# Altium footprint library Cubesat_lib.PcbLib: 37 footprints (part 2 of 3)
Each footprint in its own frame and in the unit in brackets; x right, y up, seen from the top. Pads: shape width x height; smd on the part's side, far side on the other; paste and mask are expansions set on the pad; w line width, h text height; cw(c..) or ccw(c..) is an arc to the next point about the centre after c.
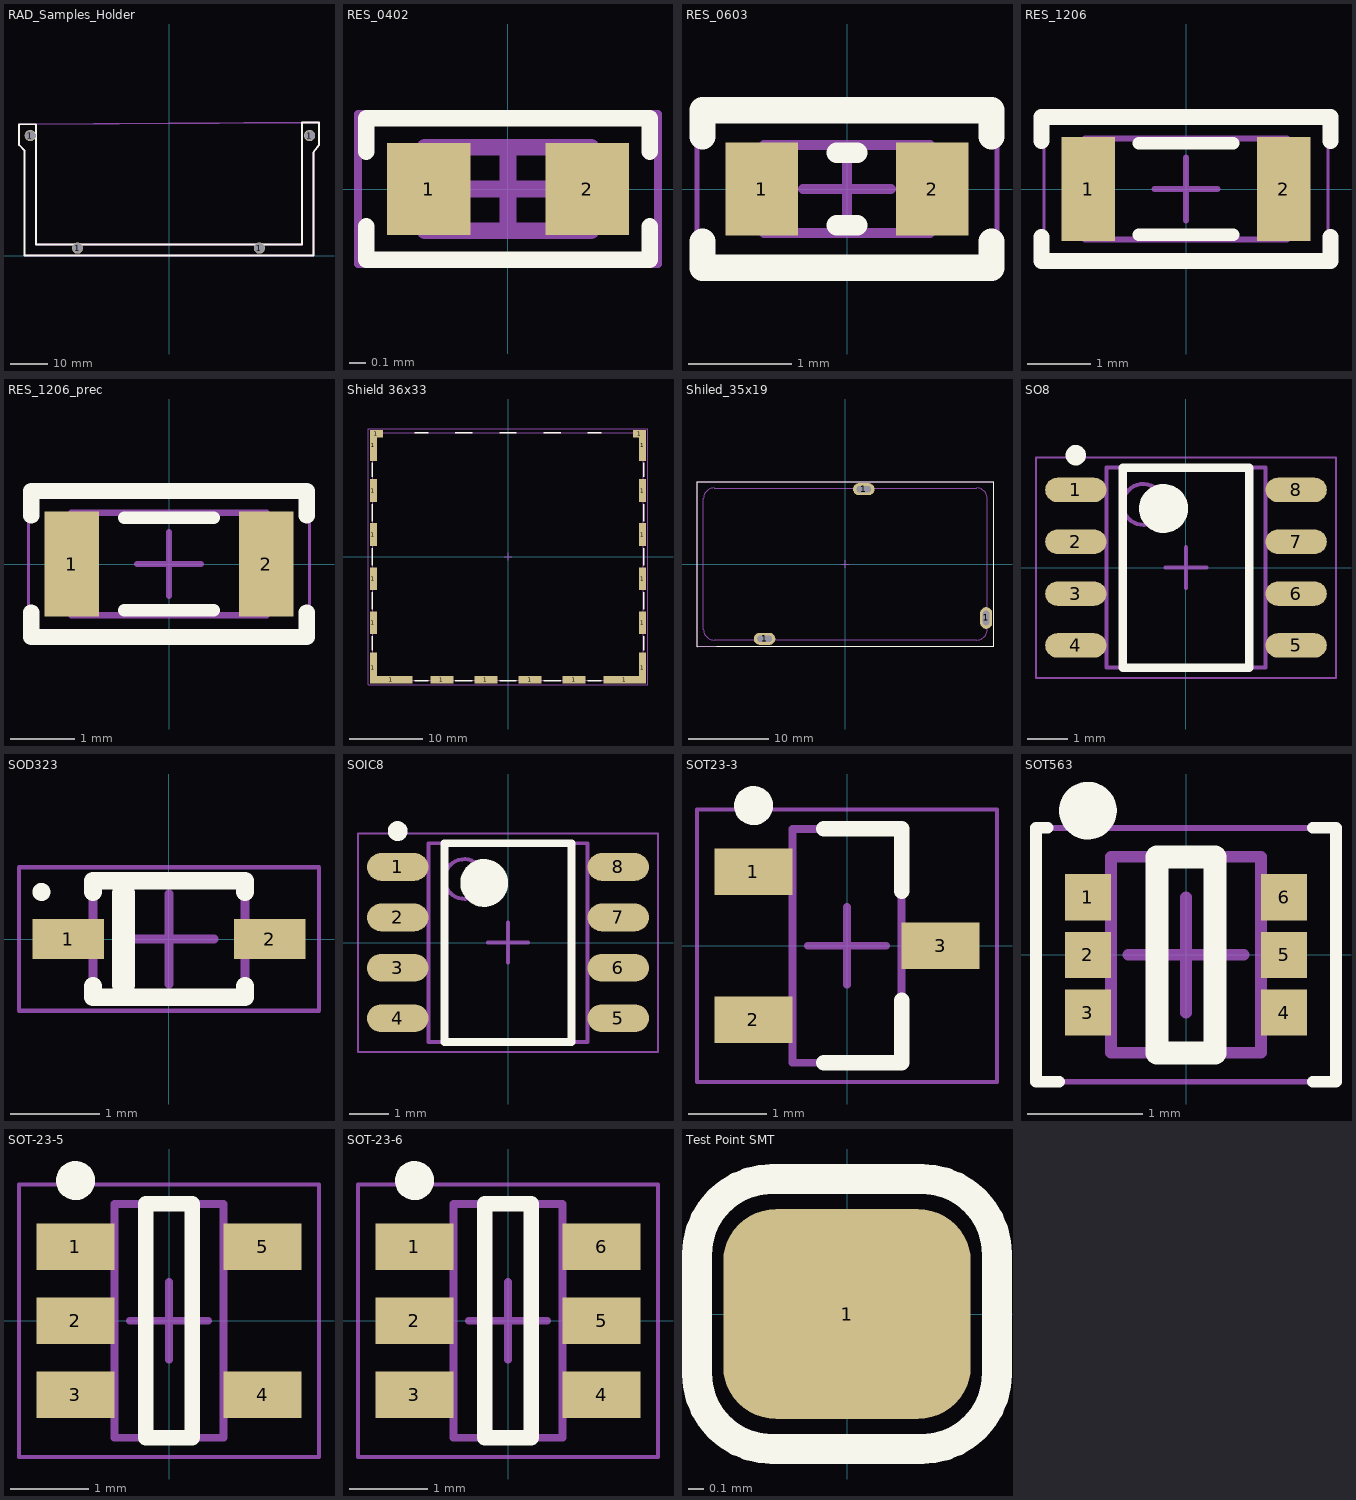
[diagram p1: the footprints below, top view; thin cyan lines are the x and y axes]

## PCBComponent_1 [mm]

## RAD_Samples_Holder [mm]
pads (4):
  round 3 hole 2.75: 1(-37,32) 1(-24.4,2) 1(24.1,2) 1(37.5,32)
Top Overlay:
  lines w0.5: -40,35 -35.5,35 -35.5,3 35.5,3 35.5,35.5 40,35.5 40,29.5 38.5,27.5 38.5,0 -38.5,0 -38.5,28 -40,29.5 -40,35 ; -40,35 -40,35
Bottom Overlay:
  lines w0.5: -38.5,0 38.5,0 38.5,27.5 40,29.5 40,35.5 -40,35 -40,29.5 -38.5,28
Mechanical 11:
  lines w0.5: -38.5,0 38.5,0 38.5,27.5 40,29.5 40,35.5 35.5,35.5 35.5,3 -35.5,3 ; -35.5,35 -40,35 ; -40,35 -40,29.5 -40,35
Mechanical 15:
  lines w0.5: -38.5,0 38.5,0 38.5,27.5 40,29.5 40,35.5 -40,35 -40,29.5 -38.5,28
3D body "RAD_holder_assembly.stp": height 6, standoff -5.6, extent -40,-0.25 40,35

## RES_0402 [mm] "Chip Resistor, 2-Leads, Body 1.00x0.50mm, IPC Medium Density"
height 0.35
pads (2):
  rect 0.5x0.55 smd: 1(-0.475,0) 2(0.475,0)
Top Overlay:
  lines w0.1: -0.85,-0.225 -0.85,-0.425 0.85,-0.425 0.85,-0.225 ; -0.85,0.225 -0.85,0.425 0.85,0.425 0.85,0.225
Mechanical 13:
  lines w0.1: -0.5,-0.25 -0.5,0.25 0.5,0.25 0.5,-0.25 -0.5,-0.25
Mechanical 15:
  lines w0.05: -0.9,-0.45 -0.9,0.45 0.9,0.45 0.9,-0.45 -0.9,-0.45
  lines w0.1: -0.25,0 0.25,0 ; 0,-0.25 0,0.25
3D body "RESC1005X04N.step": height 0.35, standoff 0, extent -0.5,-0.25 0.5,0.25

## RES_0603 [mm] "Chip Resistor, 2-Leads, Body 1.60x0.85mm, IPC Medium Density"
height 0.45
pads (2):
  rect 0.7x0.9 smd: 1(-0.825,0) 2(0.825,0)
Top Overlay:
  lines w0.2: -0.1,-0.35 0.1,-0.35 ; -0.1,0.35 0.1,0.35
  lines w0.254: -1.397,-0.508 -1.397,-0.762 1.397,-0.762 1.397,-0.508 ; -1.397,0.508 -1.397,0.762 1.397,0.762 1.397,0.508
Mechanical 13:
  lines w0.1: -0.8,-0.425 -0.8,0.425 0.8,0.425 0.8,-0.425 -0.8,-0.425
Mechanical 15:
  lines w0.05: -1.45,-0.7 -1.45,0.7 1.45,0.7 1.45,-0.7 -1.45,-0.7
  lines w0.1: -0.425,0 0.425,0 ; 0,-0.425 0,0.425
3D body "RESC1608X04N.step": height 0.45, standoff 0, extent -0.8,-0.425 0.8,0.425

## RES_1206 [mm] "Chip Resistor, 2-Leads, Body 3.20x1.60mm, IPC Medium Density"
height 0.55
pads (2):
  rect 0.85x1.65 smd: 1(-1.55,0) 2(1.55,0)
Top Overlay:
  lines w0.2: -0.75,-0.725 0.75,-0.725 ; -0.75,0.725 0.75,0.725
  lines w0.254: -2.286,-0.762 -2.286,-1.143 2.286,-1.143 2.286,-0.762 ; -2.286,0.762 -2.286,1.143 2.286,1.143 2.286,0.762
Mechanical 13:
  lines w0.1: -1.6,-0.8 1.6,-0.8 1.6,0.8 -1.6,0.8 -1.6,-0.8
Mechanical 15:
  lines w0.05: -2.25,-1.1 2.25,-1.1 2.25,1.1 -2.25,1.1 -2.25,-1.1
  lines w0.1: -0.5,0 0.5,0 ; 0,-0.5 0,0.5
3D body "RESC3216X06N.step": height 0.55, standoff 0, extent -1.6,-0.8 1.6,0.8

## RES_1206_prec [mm] "Chip Resistor, 2-Leads, Body 3.06x1.60mm, IPC Medium Density"
height 0.5
pads (2):
  rect 0.85x1.65 smd: 1(-1.525,0) 2(1.525,0)
Top Overlay:
  lines w0.2: -0.7,-0.725 0.7,-0.725 ; -0.7,0.725 0.7,0.725
  lines w0.254: -2.159,-0.762 -2.159,-1.143 2.159,-1.143 2.159,-0.762 ; -2.159,0.762 -2.159,1.143 2.159,1.143 2.159,0.762
Mechanical 13:
  lines w0.1: -1.53,-0.8 1.53,-0.8 1.53,0.8 -1.53,0.8 -1.53,-0.8
Mechanical 15:
  lines w0.05: -2.2,-1.1 2.2,-1.1 2.2,1.1 -2.2,1.1 -2.2,-1.1
  lines w0.1: -0.5,0 0.5,0 ; 0,-0.5 0,0.5
3D body "RESC3116X05N.step": height 0.5, standoff 0, extent -1.53,-0.8 1.53,0.8

## Shield 36x33 [mm] "Shielding Cabinet, SMD Frame, 36.83x33.68mm"
height 5.18
pads (20):
  rect 1x4.2 smd: 1(-18.315,-15.14) 1(-18.315,15.14) 1(18.315,-15.14) 1(18.315,15.14)
  rect 1x3.1 smd: 1(-18.315,-9) 1(-18.315,-3) 1(-18.315,3) 1(-18.315,9) 1(18.315,-9) 1(18.315,-3) 1(18.315,3) 1(18.315,9)
  rect 1.8x1 smd: 1(-17.915,16.74) 1(17.915,16.74)
  rect 5.8x1 smd: 1(-15.915,-16.74) 1(15.915,-16.74)
  rect 3.1x1 smd: 1(-9,-16.74) 1(-3,-16.74) 1(3,-16.74) 1(9,-16.74)
Top Overlay:
  lines w0.2: -18.465,-12.75 -18.465,-10.85 ; -18.465,-7.15 -18.465,-4.85 ; -18.465,-1.15 -18.465,1.15 ; -18.465,4.85 -18.465,7.15 ; -18.465,10.85 -18.465,12.75 ; -12.7,-16.89 -10.85,-16.89 ; -12.7,16.89 -10.85,16.89 ; -7.15,-16.89 -4.85,-16.89 ; -7.15,16.89 -4.85,16.89 ; -1.15,-16.89 1.15,-16.89 ; -1.15,16.89 1.15,16.89 ; 4.85,-16.89 7.15,-16.89 ; 4.85,16.89 7.15,16.89 ; 10.85,-16.89 12.7,-16.89 ; 10.85,16.89 12.7,16.89 ; 18.465,-12.75 18.465,-10.85 ; 18.465,-7.15 18.465,-4.85 ; 18.465,-1.15 18.465,1.15 ; 18.465,4.85 18.465,7.15 ; 18.465,10.85 18.465,12.75
Mechanical 11:
  lines w0.1: -18.415,-16.84 18.415,-16.84 18.415,16.84 -18.415,16.84 -18.415,-16.84
  text ".Designator" at -2.5,-0.75 h1.5
Mechanical 13:
  lines w0.1: -18.415,-16.84 -18.415,16.84 18.415,16.84 18.415,-16.84 -18.415,-16.84
Mechanical 15:
  lines w0.05: -0.5,0 0.5,0 ; 0,-0.5 0,0.5 ; -19.015,-17.44 19.015,-17.44 19.015,17.44 -19.015,17.44 -19.015,-17.44
3D body "3610536336S.stp": height 5.1, standoff 0.02, extent -18.415,-16.84 18.415,16.84

## Shiled_35x19 [mm] "Shielding Cabinet, SMT Frame Seamless, 35.5x19x5.5mm"
height 5.5
pads (3):
  oval 2.7x1.5 hole 0.8 slot 1.8 at 0 deg: 1(-10.1,-9.35) 1(2.3,9.35)
  oval 1.5x2.7 hole 0.8 slot 1.8 at 90 deg: 1(17.6,-6.75)
Top Overlay:
  lines w0.1: -18.55,-10.325 -18.525,10.3 18.55,10.3 18.525,-10.3 -16.075,-10.3 -18.55,-10.325
Mechanical 11:
  lines w0.1: -17.75,-8.15 ccw(c-16.4,-8.15) -16.4,-9.5 16.4,-9.5 ccw(c16.4,-8.15) 17.75,-8.15 17.75,8.15 ccw(c16.4,8.15) 16.4,9.5 -16.4,9.5 ccw(c-16.4,8.15) -17.75,8.15 -17.75,-8.15
  text ".Designator" at -2.5,-0.75 h1.5
Mechanical 13:
  lines w0.1: -17.75,-8.15 ccw(c-16.4,-8.15) -16.4,-9.5 16.4,-9.5 ccw(c16.4,-8.15) 17.75,-8.15 17.75,8.15 ccw(c16.4,8.15) 16.4,9.5 -16.4,9.5 ccw(c-16.4,8.15) -17.75,8.15 -17.75,-8.15
Mechanical 15:
  lines w0.05: -0.5,0 0.5,0 ; 0,-0.5 0,0.5 ; -18.55,-10.3 -18.55,10.3 18.55,10.3 18.55,-10.3 -18.55,-10.3
3D body "3670355.stp": height 5.5, standoff -1, extent -17.75,-9.5 17.75,9.5

## SO8 [mm]
height 1.75
pads (8):
  oval 1.5x0.6 smd: 1(-2.7,1.905) 2(-2.7,0.635) 3(-2.7,-0.635) 4(-2.7,-1.905) 5(2.7,-1.905) 6(2.7,-0.635) 7(2.7,0.635) 8(2.7,1.905)
Top Overlay:
  circle w0.6: c-0.55,1.45 r0.3
  circle w0.25: c-2.7,2.755 r0.125
  lines w0.2: -1.55,-2.45 1.55,-2.45 1.55,2.45 -1.55,2.45 -1.55,-2.45
Mechanical 13:
  circle w0.1: c-1.05,1.55 r0.5
  lines w0.1: -1.95,-2.45 1.95,-2.45 1.95,2.45 -1.95,2.45 -1.95,-2.45
Mechanical 15:
  lines w0.05: -3.675,-2.7 3.675,-2.7 3.675,2.7 -3.675,2.7 -3.675,-2.7
  lines w0.1: -0.5,0 0.5,0 ; 0,-0.5 0,0.5
3D body "SOIC127P600-8N.step": height 1.75, standoff 0, extent -3,-2.45 3,2.45

## SOD323 [mm] "SODFL, 2-Leads, Body 1.25x2.50mm, IPC Medium Density"
height 0.9
pads (2):
  rect 0.8x0.45 smd: 1(-1.125,0) 2(1.125,0)
Top Overlay:
  circle w0.1: c-1.425,0.525 r0.05
  lines w0.2: -0.85,-0.525 -0.85,-0.65 0.85,-0.65 0.85,-0.525 ; -0.85,0.525 -0.85,0.65 0.85,0.65 0.85,0.525
  lines w0.254: -0.508,-0.508 -0.508,0.508
Mechanical 13:
  lines w0.1: -0.85,-0.625 0.85,-0.625 0.85,0.625 -0.85,0.625 -0.85,-0.625
Mechanical 15:
  lines w0.05: -1.675,-0.8 1.675,-0.8 1.675,0.8 -1.675,0.8 -1.675,-0.8
  lines w0.1: -0.5,0 0.5,0 ; 0,-0.5 0,0.5
3D body "SODFL250X90-2N.step": height 0.9, standoff 0, extent -1.25,-0.625 1.25,0.625

## SOIC8 [mm] "SOIC, 8-Leads, Body 5.00x4.00mm, Pitch 1.27mm, IPC Medium Density"
height 1.75
pads (8):
  oval 1.55x0.7 smd: 1(-2.775,1.905) 2(-2.775,0.635) 3(-2.775,-0.635) 4(-2.775,-1.905) 5(2.775,-1.905) 6(2.775,-0.635) 7(2.775,0.635) 8(2.775,1.905)
Top Overlay:
  circle w0.6: c-0.6,1.5 r0.3
  circle w0.25: c-2.775,2.805 r0.125
  lines w0.2: -1.6,-2.5 1.6,-2.5 1.6,2.5 -1.6,2.5 -1.6,-2.5
Mechanical 13:
  circle w0.1: c-1.1,1.6 r0.5
  lines w0.1: -2,-2.5 2,-2.5 2,2.5 -2,2.5 -2,-2.5
Mechanical 15:
  lines w0.05: -3.775,-2.75 3.775,-2.75 3.775,2.75 -3.775,2.75 -3.775,-2.75
  lines w0.1: -0.5,0 0.5,0 ; 0,-0.5 0,0.5
3D body "SOIC8.step": height 1.75, standoff 0, extent -3.1,-2.5 3.1,2.5

## SOT23-3 [mm]
height 1.1
pads (3):
  rect 1x0.6 smd: 1(-1.2,0.95) 2(-1.2,-0.95) 3(1.2,0)
Top Overlay:
  circle w0.25: c-1.2,1.8 r0.125
  lines w0.2: -0.3,-1.5 0.7,-1.5 0.7,-0.7 ; -0.3,1.5 0.7,1.5 0.7,0.7
Mechanical 13:
  lines w0.1: -0.7,-1.5 0.7,-1.5 0.7,1.5 -0.7,1.5 -0.7,-1.5
Mechanical 15:
  lines w0.05: -1.925,-1.75 1.925,-1.75 1.925,1.75 -1.925,1.75 -1.925,-1.75
  lines w0.1: -0.5,0 0.5,0 ; 0,-0.5 0,0.5
3D body "SOT23127P600-8N.step": height 1.1, standoff 0, extent -1.3,-1.5 1.3,1.5

## SOT563 [mm]
height 0.6
pads (6):
  rect 0.4x0.4 smd: 1(-0.85,0.5) 2(-0.85,0) 3(-0.85,-0.5) 4(0.85,-0.5) 5(0.85,0) 6(0.85,0.5)
Top Overlay:
  circle w0.25: c-0.85,1.25 r0.125
  lines w0.1: -1.2,1.1 -1.3,1.1 -1.3,-1.1 -1.1,-1.1 ; 1.1,-1.1 1.3,-1.1 1.3,1.1 1.1,1.1
  lines w0.2: -0.25,-0.85 -0.25,0.85 0.25,0.85 0.25,-0.85 -0.25,-0.85
Mechanical 13:
  lines w0.1: -0.65,-0.85 0.65,-0.85 0.65,0.85 -0.65,0.85 -0.65,-0.85
Mechanical 15:
  lines w0.05: -1.275,-1.1 1.275,-1.1 1.275,1.1 -1.275,1.1 -1.275,-1.1
  lines w0.1: -0.5,0 0.5,0 ; 0,-0.5 0,0.5
3D body "SOT23127P600-8N.step": height 0.6, standoff 0, extent -0.775,-0.85 0.775,0.85

## SOT-23-5 [mm] "SOT23, 5-Leads, Body 2.90x2.45mm, Pitch 0.95mm, IPC Medium Density"
height 1.1
pads (5):
  rect 1x0.6 smd: 1(-1.2,0.95) 2(-1.2,0) 3(-1.2,-0.95) 4(1.2,-0.95) 5(1.2,0.95)
Top Overlay:
  circle w0.25: c-1.2,1.8 r0.125
  lines w0.2: -0.3,-1.5 -0.3,1.5 0.3,1.5 0.3,-1.5 -0.3,-1.5
Mechanical 13:
  lines w0.1: -0.7,-1.5 0.7,-1.5 0.7,1.5 -0.7,1.5 -0.7,-1.5
Mechanical 15:
  lines w0.05: -1.925,-1.75 1.925,-1.75 1.925,1.75 -1.925,1.75 -1.925,-1.75
  lines w0.1: -0.5,0 0.5,0 ; 0,-0.5 0,0.5
3D body "SOT95P245X110-5N.step": height 1.1, standoff 0, extent -1.3,-1.5 1.3,1.5

## SOT-23-6 [mm]
height 1.1
pads (6):
  rect 1x0.6 smd: 1(-1.2,0.95) 2(-1.2,0) 3(-1.2,-0.95) 4(1.2,-0.95) 5(1.2,0) 6(1.2,0.95)
Top Overlay:
  circle w0.25: c-1.2,1.8 r0.125
  lines w0.2: -0.3,-1.5 -0.3,1.5 0.3,1.5 0.3,-1.5 -0.3,-1.5
Mechanical 13:
  lines w0.1: -0.7,-1.5 0.7,-1.5 0.7,1.5 -0.7,1.5 -0.7,-1.5
Mechanical 15:
  lines w0.05: -1.925,-1.75 1.925,-1.75 1.925,1.75 -1.925,1.75 -1.925,-1.75
  lines w0.1: -0.5,0 0.5,0 ; 0,-0.5 0,0.5
3D body "SOT23127P600-8N.step": height 1.1, standoff 0, extent -1.3,-1.5 1.3,1.5

## Test Point SMT [mm]
pads (1):
  rrect50% 1.65x1.4 smd: 1(0,0)
Top Overlay:
  lines w0.2: -1,-0.4 ccw(c-0.5,-0.4) -0.5,-0.9 0.5,-0.9 ccw(c0.5,-0.4) 1,-0.4 1,0.4 ccw(c0.5,0.4) 0.5,0.9 -0.5,0.9 ccw(c-0.5,0.4) -1,0.4 -1,0 -1,-0.4